# EAGLE library part 3-794636-4 (library 3-794636-4)
Header Vert pcb 4 way Pin Mate-n-Lok Source: Datasheet <https://componentsearchengine.com/Datasheets/1/3-794636-4.pdf>
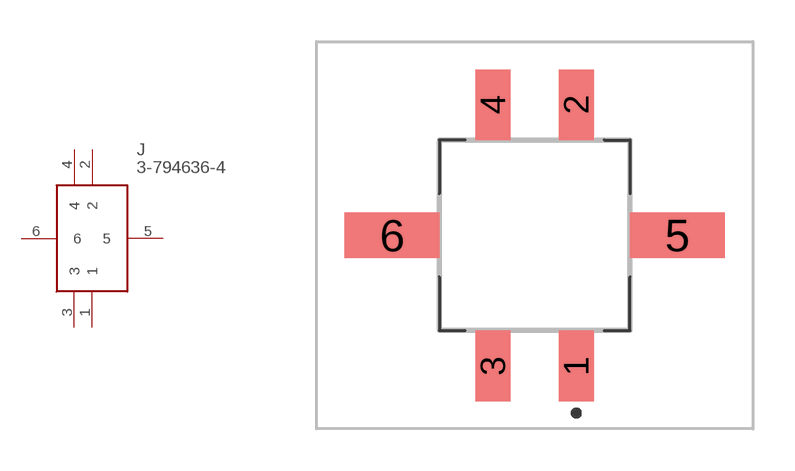
[diagram p0: symbol with the pads of 37946364; footprint 37946364]

Designator prefix J

## 3-794636-4 (Description: Header Vert pcb 4 way Pin Mate-n-Lok; Height: 9.37mm; Manufacturer_Name: TE Connectivity; Manufacturer_Part_Number: 3-794636-4; Mouser_Part_Number: 571-3-794636-4; Mouser_Price-Stock: https://www.mouser.com/Search/Refine.aspx?Keyword=571-3-794636-4)  [37946364]
1  1
2  2
3  3
4  4
5  5
6  6

## Footprint 37946364 (pad centres in mm)
3-794636-4-1
smd 1.27 x 2.54: 1 1.5,-4.7; 2 1.5,4.7; 3 -1.5,-4.7; 4 -1.5,4.7
smd 3.43 x 1.65: 5 5.135,0; 6 -5.135,0